# Altium integrated library 100554_notecarrier-xsi.IntLib: 38 symbols
Pins are listed as number, name and electrical type; pins without a type are passive.

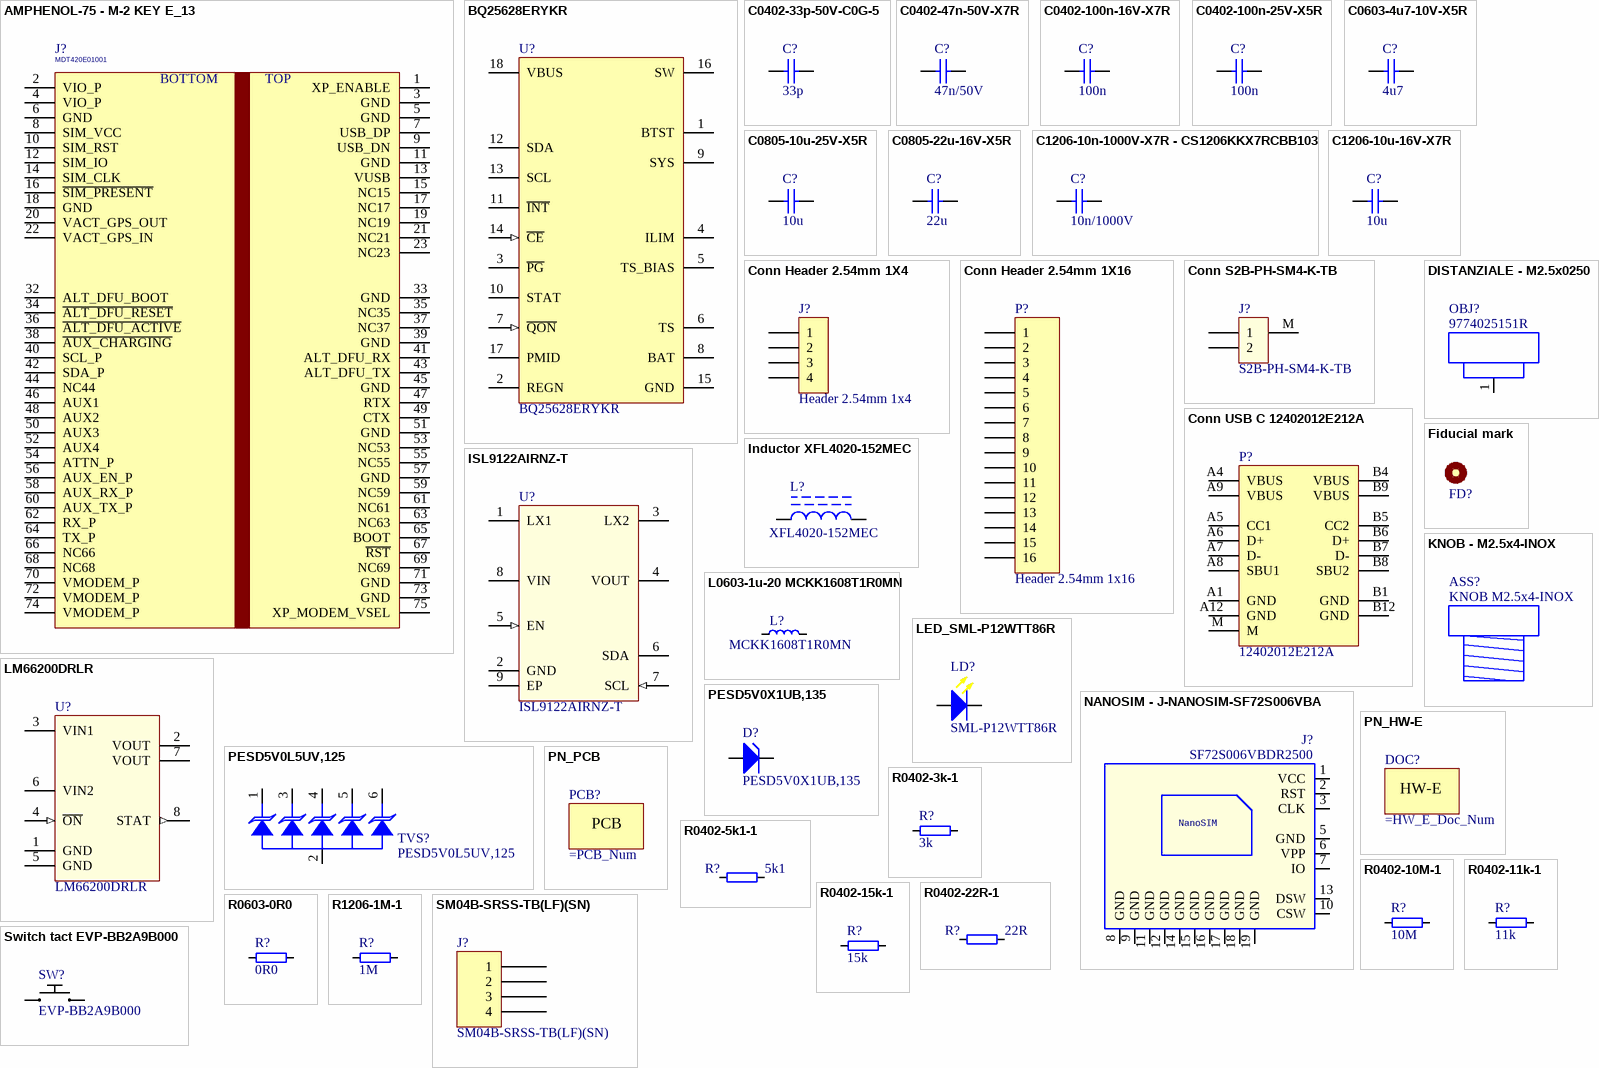
[diagram p0: symbols AMPHENOL-75 - M-2 KEY E_13 to Switch tact EVP-BB2A9B000]

## AMPHENOL-75 - M-2 KEY E_13
designator J?, comment MDT420E01001
CONN. M.2 75P M/90° P=0.5 MDT420E01001 AMPHENOL SMT; Manufacturer: Amphenol ICC (FCI); Manufacturer Part Number: MDT420E03001; BL Part Number: 2007-460; Drawn_By: Blues Wireless; Supplier 1: Digi-Key; Supplier Part Number 1: MDT420E03001CT-ND
footprint J-75-0050-MOS-M2
pins: 1 XP_ENABLE, 2 VIO_P, 3 GND, 4 VIO_P, 5 GND, 6 GND, 7 USB_DP, 8 SIM_VCC, 9 USB_DN, 10 SIM_RST, 11 GND, 12 SIM_IO, 13 VUSB, 14 SIM_CLK, 15 NC15, 16 ~{SIM_PRESENT}, 17 NC17, 18 GND, 19 NC19, 20 VACT_GPS_OUT, 21 NC21, 22 VACT_GPS_IN, 23 NC23, 32 ALT_DFU_BOOT, 33 GND, 34 ~{ALT_DFU_RESET}, 35 NC35, 36 ~{ALT_DFU_ACTIVE}, 37 NC37, 38 ~{AUX_CHARGING}, 39 GND, 40 SCL_P, 41 ALT_DFU_RX, 42 SDA_P, 43 ALT_DFU_TX, 44 NC44, 45 GND, 46 AUX1, 47 RTX, 48 AUX2, 49 CTX, 50 AUX3, 51 GND, 52 AUX4, 53 NC53, 54 ATTN_P, 55 NC55, 56 AUX_EN_P, 57 GND, 58 AUX_RX_P, 59 NC59, 60 AUX_TX_P, 61 NC61, 62 RX_P, 63 NC63, 64 TX_P, 65 BOOT, 66 NC66, 67 ~{RST}, 68 NC68, 69 NC69, 70 VMODEM_P, 71 GND, 72 VMODEM_P, 73 GND, 74 VMODEM_P, 75 XP_MODEM_VSEL
text: BOTTOM; TOP

## BQ25628ERYKR
designator U?
IC LI-ION CHARGE MGMT 16-QFN; Manufacturer: Texas Instruments; BL Part Number: 2008-206; Drawn_By: Marsic; Checked_By: *; DateModified: 17-01-2024; Manufacturer Part Number: BQ25628ERYKR; Note: *; Supplier 1: Digi-Key; Supplier Part Number 1: 296-BQ25628ERYKRCT-ND - Cut Tape (CT)
footprint QFN40P300X150X80-18N (QFN, 18-Leads, Body 3,00x1,50mm, Pitch 0,40mm)
pins: 1 BTST (power), 2 REGN (power), 3 ~{PG} (oc), 4 ILIM, 5 TS_BIAS (power), 6 TS, 7 ~{QON} (in), 8 BAT (power), 9 SYS (power), 10 STAT (oc), 11 ~{INT} (oc), 12 SDA (oc), 13 SCL (oc), 14 ~{CE} (in), 15 GND, 16 SW (power), 17 PMID (power), 18 VBUS (power)

## C0402-33p-50V-C0G-5
designator C?, comment 33p
Capacitor ceramic 33p ±5% C0G 50V 0402; BL Part Number: 2001-377; Drawn_By: Puskar; Checked_By: Dodig; Manufacturer: N/A; Supplier 1: Digi-Key; Supplier Part Number 1: 1276-1272-1-ND; Note: *; Manufacturer Part Number: N/A; DateModified: 24-11-2013
simulation model CAP (Capacitor)
footprint C-0402 (Chip Capacitor; Body 1 x 0.5 mm (LxW typ))
pins: 1, 2

## C0402-47n-50V-X7R
designator C?, comment 47n/50V
Capacitor ceramic 47n 10% X7R 50V 0402; BL Part Number: 2003-965; Drawn_By: Hlupic; Checked_By: Hamin; Note: *; Manufacturer: N/A; Manufacturer Part Number: N/A; DateModified: 08-05-2018; Supplier 1: Digi-Key; Supplier Part Number 1: 311-3815-2-ND
footprint C-0402 (Chip Capacitor; Body 1 x 0.5 mm (LxW typ))
pins: 1, 2

## C0402-100n-16V-X7R
designator C?, comment 100n
Capacitor ceramic 100n ±10% X7R 16V 0402; BL Part Number: 2000-908; Drawn_By: Puskar; Checked_By: Dodig; Manufacturer: N/A; Supplier 1: Digi-Key; Supplier Part Number 1: 490-3261-1-ND; Note: *; Manufacturer Part Number: N/A; DateModified: 27-08-2013
simulation model CAP (Capacitor)
footprint C-0402 (Chip Capacitor; Body 1 x 0.5 mm (LxW typ))
pins: 1, 2

## C0402-100n-25V-X5R
designator C?, comment 100n
Capacitor ceramic 100n ±10% X5R 25V 0402; BL Part Number: 2004-296; Drawn_By: PuskarJ; Checked_By: Hamin; Note: *; Manufacturer: N/A; Manufacturer Part Number: N/A; DateModified: 24-01-2019; Supplier 1: Digi-Key; Supplier Part Number 1: 1276-1043-1-ND
simulation model CAP (Capacitor)
footprint C-0402 (Chip Capacitor; Body 1 x 0.5 mm (LxW typ))
pins: 1, 2

## C0603-4u7-10V-X5R
designator C?, comment 4u7
Capacitor ceramic 4u7 ±10% X5R 10V 0603; BL Part Number: 2003-721; Drawn_By: Hamin; Checked_By: Marsic; Manufacturer: N/A; Manufacturer Part Number: N/A; DateModified: 19-06-2023; Note: *
footprint C-0603 (Chip Capacitor; Body 1.6 x 0.8 mm (LxW typ))
pins: 1, 2

## C0805-10u-25V-X5R
designator C?, comment 10u
Capacitor ceramic 10u ±20% X5R 25V 0805; BL Part Number: 2004-293; Manufacturer: Murata Electronics; Manufacturer Part Number: GRM21BR61E106MA73L; Drawn_By: Hlupic; Checked_By: Hamin; Note: *; DateModified: 23-01-2019; Supplier 1: Digi-Key; Supplier Part Number 1: 490-10748-1-ND
footprint C-0805 (Chip Capacitor; Body 2.0 x 1.2 mm (LxW typ))
pins: 1, 2

## C0805-22u-16V-X5R
designator C?, comment 22u
Capacitor ceramic 22u ±10% X5R 16V 0805; BL Part Number: 2006-222; Drawn_By: Fumic; Checked_By: Hamin; Manufacturer: N/A; Manufacturer Part Number: N/A; DateModified: 28-07-2022
simulation model CAP (Capacitor)
footprint C-0805 (Chip Capacitor; Body 2.0 x 1.2 mm (LxW typ))
pins: 1, 2

## C1206-10n-1000V-X7R - CS1206KKX7RCBB103
designator C?, comment 10n/1000V
Capacitor ceramic 10n ±10% X7R 1000V 1206; BL Part Number: 2007-449; Manufacturer: YAGEO; Manufacturer Part Number: CS1206KKX7RCBB103; Drawn_By: Hamin; Checked_By: Marsic; DateModified: 03-05-2023; Supplier 1: Digi-Key; Supplier Part Number 1: 311-3578-1-ND; Note: *
footprint C-1206 (Chip Capacitor; Body 3.2 x 1.6 mm (LxW typ))
pins: 1, 2

## C1206-10u-16V-X7R
designator C?, comment 10u
Capacitor ceramic 10u ±10% X7R 16V 1206; BL Part Number: 2000-447; Drawn_By: Dodig; Checked_By: Zvonc; Note: *; Manufacturer: N/A; Manufacturer Part Number: N/A; DateModified: 04-07-2013; Supplier 1: Digi-Key; Supplier Part Number 1: 1276-1137-1-ND
simulation model CAP (Capacitor)
footprint C-1206 (Chip Capacitor; Body 3.2 x 1.6 mm (LxW typ))
pins: 1, 2

## Conn Header 2.54mm 1X4
designator J?, comment Header 2.54mm 1x4
2.54mm pitch 4 pin (1x4) top entry wire to board connector THT; BL Part Number: 2001-524; Drawn_By: Puskar; Checked_By: Dodig; Note: *; Manufacturer: N/A; Manufacturer Part Number: N/A; DateModified: 29-01-2024
footprint Header 2.54mm 1X4 (Footprint not found)
pins: 1, 2, 3, 4

## Conn Header 2.54mm 1X16
designator P?, comment Header 2.54mm 1x16
2.54mm pitch 16 pin (1x16) top entry wire to board connector THT; BL Part Number: 2001-478; Drawn_By: Puskar; Checked_By: Hamin; Note: *; Manufacturer: N/A; Manufacturer Part Number: N/A; DateModified: 07-12-2013
footprint Header 2.54mm 1X16 (Footprint not found)
pins: 1, 2, 3, 4, 5, 6, 7, 8, 9, 10, 11, 12, 13, 14, 15, 16

## Conn S2B-PH-SM4-K-TB
designator J?, comment S2B-PH-SM4-K-TB
2.00mm pitch 2 pin side entry wire to board connector, SMD; BL Part Number: 2007-662; Manufacturer: JST; Manufacturer Part Number: S2B-PH-SM4-K-TB(LF)(SN); Drawn_By: Hamin; DateModified: 19-06-2023; Checked_By: *; Supplier 1: Digi-Key; Supplier Part Number 1: *; Note: *
footprint Conn S2B-PH-SM4 (2.00 mm pitch wire to board side entry connector, SMD)
pins: 1, 2, M

## Conn USB C 12402012E212A
designator P?, comment 12402012E212A
CONN RCP USB2.0 TYP C 24P SMD RA; BL Part Number: 2008-437; Manufacturer: Amphenol; Drawn_By: Anic-Ivicic; Checked_By: Hlupic; Note: *; Manufacturer Part Number: 12402012E212A; DateModified: 19-03-2024; Supplier 1: Digi-Key; Supplier Part Number 1: 664-12402012E212ATR-ND
footprint CONN_12402012E212A (Amphenol USB C receptacle)
pins: A1 GND (power), A4 VBUS (power), A5 CC1, A6 D+, A7 D-, A8 SBU1, A9 VBUS (power), A12 GND (power), B1 GND (power), B4 VBUS (power), B5 CC2, B6 D+, B7 D-, B8 SBU2, B9 VBUS (power), B12 GND (power), M (power)

## DISTANZIALE - M2.5x0250
designator OBJ?, comment 9774025151R
DISTANZ. CIL. METALLO 5.1X2.5 9774025151R W.E SMT; Manufacturer: Würth Elektronik; BL Part Number: 6020-113; Drawn_By: Blues Wieless; Supplier 1: Digi-Key; Supplier Part Number 1: 732-7078-1-ND; Manufacturer Part Number: 9774025151R
footprint DIST-WASMSIM0250
pins: 1 (power)

## Fiducial mark
designator FD?  (value not drawn)  (no BOM)
Drawn_By: Puskar; Checked_By: Dodig; BL Part Number: N/A; Manufacturer: N/A; Manufacturer Part Number: N/A; DateModified: 17-06-2013
footprint Fiducial mark 1mm (Footprint not found)
footprint Fiducial mark 0.5mm (Footprint not found)
pins: 1

## Inductor XFL4020-152MEC
designator L?, comment XFL4020-152MEC
Inductor 1u5 ±20% 4.6A SMD; Manufacturer: Coilcraft; BL Part Number: 2006-846; Checked_By: Hlupic; Drawn_By: Marsic; Manufacturer Part Number: XFL4020-152MEC; DateModified: 29-09-2022; Note: *
footprint IND_XFL4020 (XFL4020 SMD Power Inductor)
pins: 1, 2

## ISL9122AIRNZ-T
designator U?
IC CON BUCK-BOOST ADJ 0.5A DFN-8; Manufacturer: Renesas; BL Part Number: 2008-968; Drawn_By: Marsic; Manufacturer Part Number: ISL9122AIRNZ-T; DateModified: 19-11-2024; Checked_By: *; Note: *
footprint DFN50P200X300x75-8T180X165 (DFN, 8-Leads, Body 3x2mm, Pitch 0.5mm)
pins: 1 LX1, 2 GND (power), 3 LX2, 4 VOUT, 5 EN (in), 6 SDA (oc), 7 SCL (in), 8 VIN (power), 9 EP

## KNOB - M2.5x4-INOX
designator ASS?, comment KNOB M2.5x4-INOX  (mechanical)
VITE TCEI 2.5X4 ESAGONO INCASSATO A2 INOX; Manufacturer Part Number: M2.5X4/D7985-A2; Manufacturer: KRAFTBERG; BL Part Number: 6000-168; Drawn_By: Blues Wireless; Supplier Part Number 1: M2.5X4/D7985-A2; Supplier 1: TME

## L0603-1u-20 MCKK1608T1R0MN
designator L?, comment MCKK1608T1R0MN
Inductor 0603 1u ±20% 1.3A; Manufacturer: Taiyo Yuden; BL Part Number: 2003-989; Checked_By: Hlupic; Drawn_By: Fumic; Manufacturer Part Number: MCKK1608T1R0MN; DateModified: 30-01-2020; Note: *; Supplier 1: Digi-Key; Supplier Part Number 1: 587-5973-1-ND
footprint L-0603 (Chip Inductor Body 1.6 x 0.8 mm (LxW typ))
pins: 1, 2

## LED_SML-P12WTT86R
designator LD?, comment SML-P12WTT86R
LED YELLOW CLEAR 0402 SMD; Manufacturer: ROHM Semiconductor; BL Part Number: 2007-660; Drawn_By: Hamin; Note: *; DateModified: 19-06-23; Checked_By: Hamin; Manufacturer Part Number: SML-P12WTT86R
footprint LED-0402 (Body 1.6 x 0.8 mm (LxW typ))
pins: 1 A, 2 K

## LM66200DRLR
designator U?
IC, Power switch, OR Controller N+1 ORing Controller N-Channel 2:1 SOT-583; Manufacturer: Texas Instruments; BL Part Number: 2007-318; Checked_By: Hamin; Drawn_By: Golubic; DateModified: 06-02-2023; Manufacturer Part Number: LM66200DRLR; Note: *; Supplier 1: Digi-Key; Supplier Part Number 1: 296-LM66200DRLRTR-ND
footprint SOT-583 (SOT-583; 8 Leads; Body 2.2 x 1.6 mm, inc. leads (LxW max))
pins: 1 GND (power), 2 VOUT (power), 3 VIN1 (power), 4 ~{ON} (in), 5 GND (power), 6 VIN2 (power), 7 VOUT (power), 8 STAT (out)

## NANOSIM - J-NANOSIM-SF72S006VBA
designator J?, comment SF72S006VBDR2500
CONN. NANOSIM 8P F/90° PUSH-PUSH SF72S006VBAR2500 JAE ELECTRONICS SMT; BL Part Number: 2007-458; Drawn_By: Blues Wireless; Supplier 1: Digi-Key; Supplier Part Number 1: 670-2967-1-ND; Manufacturer Part Number: SF72S006VBDR2500; Manufacturer: JAE Electronics
footprint J-NANOSIM-SF72S006VBA
pins: 1 VCC (power), 2 RST, 3 CLK, 5 GND (power), 6 VPP, 7 IO (io), 8 GND (power), 9 GND (power), 10 CSW, 11 GND (power), 12 GND (power), 13 DSW, 14 GND (power), 15 GND (power), 16 GND (power), 17 GND (power), 18 GND (power), 19 GND (power)
text: NanoSIM

## PESD5V0L5UV,125
designator TVS?
PESD Series 25 W 5 V Uni-Directional Fivefold ESD Protection Diode Array SOT-666; Manufacturer: Nexperia; BL Part Number: 2007-452; Drawn_By: Blues Wireless; Supplier 1: Digi-Key; Manufacturer Part Number: PESD5V0L5UV,125; Supplier Part Number 1: 1727-5797-1-ND
footprint SOT666
pins: 1 C1, 2 A2, 3 C3, 4 C4, 5 A5, 6 C6

## PESD5V0X1UB,135
designator D?
TVS DIODE 5VWM 8VC SOD523; BL Part Number: 2004-110; Manufacturer: Nexperia; Drawn_By: Zvonc; Checked_By: Hamin; Manufacturer Part Number: PESD5V0X1UB,135; DateModified: 17-10-2018; Supplier 1: Digi-Key; Supplier Part Number 1: 1727-5906-1-ND
footprint SOD-523F
pins: 1 A, 2 K

## PN_HW-E
designator DOC?, comment Electronic design doc number  (value not drawn)  (mechanical)
Manufacturer: Byte Lab; Checked_By: Zvonc; Drawn_By: Dodig; Manufacturer Part Number: *; DateModified: *; BL Part Number: =HW_E_Doc_Num
text: HW-E

## PN_PCB
designator PCB?, comment PCB Part Number  (value not drawn)  (mechanical)
Manufacturer: Byte Lab; Checked_By: Zvonc; Drawn_By: Dodig; Manufacturer Part Number: *; DateModified: *; BL Part Number: =PCB_Num
text: PCB

## R0402-3k-1
designator R?, comment 3k
Resistor 3k ±1% 0402; BL Part Number: 2001-570; Checked_By: Hamin; Drawn_By: Fumic; Manufacturer Part Number: N/A; DateModified: 06-09-2021; Manufacturer: N/A; Note: *
footprint R-0402 (Chip Resistor; Body 1 x 0.5 mm (LxW typ))
pins: 1, 2

## R0402-5k1-1
designator R?, comment 5k1
Resistor 5k1 ±1% 0402; BL Part Number: 2004-098; Checked_By: Hamin; Drawn_By: PuskarJ; Manufacturer Part Number: N/A; DateModified: 21-09-2018; Manufacturer: N/A; Note: *; Supplier 1: Digi-Key; Supplier Part Number 1: P5.10KLCT-ND
footprint R-0402 (Chip Resistor; Body 1 x 0.5 mm (LxW typ))
pins: 1, 2

## R0402-10M-1
designator R?, comment 10M
Resistor 10M ±1% 0402; BL Part Number: 2002-832; Checked_By: Dodig; Drawn_By: Zvonc; Manufacturer Part Number: N/A; DateModified: 24-05-2016; Manufacturer: N/A; Note: *; Supplier 1: Digi-Key; Supplier Part Number 1: RC0402FR-0710ML
footprint R-0402 (Chip Resistor; Body 1 x 0.5 mm (LxW typ))
pins: 1, 2

## R0402-11k-1
designator R?, comment 11k
Resistor 11k ±1% 0402; BL Part Number: 2004-237; Checked_By: Marsic; Drawn_By: PuskarJ; Manufacturer Part Number: N/A; DateModified: 18-12-2018; Manufacturer: N/A; Note: *
footprint R-0402 (Chip Resistor; Body 1 x 0.5 mm (LxW typ))
pins: 1, 2

## R0402-15k-1
designator R?, comment 15k
Resistor 15k ±1% 0402; BL Part Number: 2001-157; Checked_By: Zvonc; Drawn_By: Puskar; Supplier 1: Digi-Key; Manufacturer: N/A; Manufacturer Part Number: N/A; Supplier Part Number 1: P15.0KLCT-ND; DateModified: 23-01-2015; Note: *
footprint R-0402 (Chip Resistor; Body 1 x 0.5 mm (LxW typ))
pins: 1, 2

## R0402-22R-1
designator R?, comment 22R
Resistor 22R ±1% 0402; BL Part Number: 2001-170; Checked_By: Hamin; Drawn_By: Zvonc; Supplier 1: Digi-Key; Manufacturer: N/A; Manufacturer Part Number: N/A; Supplier Part Number 1: 311-22.0LRCT-ND; DateModified: 13-02-2021; Note: *
footprint R-0402 (Chip Resistor; Body 1 x 0.5 mm (LxW typ))
pins: 1, 2

## R0603-0R0
designator R?, comment 0R0
Resistor 0R0 0603; BL Part Number: 2000-723; Checked_By: Puskar; Drawn_By: Dodig; Manufacturer Part Number: N/A; DateModified: 07-12-2013; Manufacturer: N/A; Note: *; Supplier 1: Digi-Key; Supplier Part Number 1: 311-0.0GRCT-ND
footprint R-0603 (Chip Resistor; Body 1.6 x 0.9 mm (LxW typ))
pins: 1, 2

## R1206-1M-1
designator R?, comment 1M
Resistor 1M ±1% 1206; BL Part Number: 2001-438; Checked_By: Golubic; Drawn_By: Zvonc; Manufacturer Part Number: N/A; DateModified: 01-07-2014; Manufacturer: N/A; Supplier 1: *; Supplier Part Number 1: *
footprint R-1206 (Chip Resistor; Body 3.1 x 1.6 mm (LxW typ))
pins: 1, 2

## SM04B-SRSS-TB(LF)(SN)
designator J?
CONN HEADER SH 4POS SIDE 1MM TIN; Manufacturer: JST Sales America Inc.; BL Part Number: 2002-058; Drawn_By: Blues Wireless; Supplier 1: Digi-Key; Manufacturer Part Number: SM04B-SRSS-TB(LF)(SN); Supplier Part Number 1: 455-1804-1-ND
footprint JST SM04B-SRSS-TB (1.0mm pitch/Disconnectable Crimp style connector)
pins: 1, 2, 3, 4

## Switch tact EVP-BB2A9B000
designator SW?, comment EVP-BB2A9B000
SWITCH TACTILE SPST-NO 0.05A 15V; Manufacturer: Panasonic Electronic Components; BL Part Number: 2007-124; Drawn_By: Marsic; Manufacturer Part Number: EVP-BB2A9B000; Note: *; DateModified: 09-02-2023; Checked_By: *
footprint SW_EVP-BB2A9B000 (SWITCH TACTILE SPST-NO 0.02A 15V SMD)
pins: 1 A, 2 B